# Altium schematic symbol library jacks.SchLib: 2 symbols
Pins are listed as number, name and electrical type; pins without a type are passive.

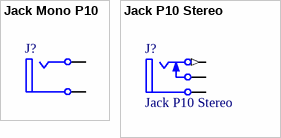
[diagram p0: symbols Jack Mono P10 to Jack P10 Stereo]

## Jack Mono P10
designator J?, comment Jack Mono  (value not drawn)
Jack Socket, Thru-Hole, Vertical, 2-Conductor Open Circuit; PackageDocument: 2003; PCB_Layout: Complies with manufacturer's recommendation.; DrillAndSlotSize: Corresponds to nominal value.; LatestRevisionDate: 15-Jul-2004; LatestRevisionNote: Component Replaced.; DatasheetDocument: 2003; PackageReference: S1VS_SNS; Publisher: Altium Limited; ComponentLink1Description: Manufacturer Link; ComponentLink1URL: http://www.cliffuk.co.uk/
footprint JACK-STEREO-3PAD (Connector; Jack Socket, 1/4" [6.5mm], Thru-Hole, 3 Position, Vertical, Body 15.7 x 15.7 x 31 mm (WxTxH))
signal-integrity model JACK Socket
pins: 1 T "Tip", 2 S (power) "Sleeve (Ground)"

## Jack P10 Stereo
designator J?
Jack Socket, 1/4" [6.5mm], Thru-Hole, Vertical, 2-Conductor with Tip closed; PackageDocument: 2003; PCB_Layout: Complies with manufacturer's recommendation.; DrillAndSlotSize: Corresponds to nominal value.; LatestRevisionDate: 15-Jul-2004; LatestRevisionNote: Component Replaced & renamed from "Phonejack".; DatasheetDocument: 2003; PackageReference: S1VS_SNB; Publisher: Altium Limited; ComponentLink1Description: Manufacturer Link; ComponentLink1URL: http://www.cliffuk.co.uk/
footprint JACK-STEREO-3PAD (Connector; Jack Socket, 1/4" [6.5mm], Thru-Hole, 3 Position, Vertical, Body 15.7 x 15.7 x 31 mm (WxTxH))
signal-integrity model JACK Socket
pins: 1 T (out) "Tip", 2 TN "Tip Normal (Break Contact)", 5 S (power) "Sleeve (Ground)"